# Altium schematic symbol library 6N137.SCHLIB: 1 symbol
Pins are listed as number, name and electrical type; pins without a type are passive.

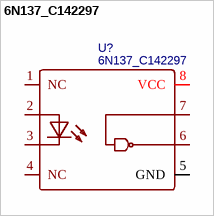
[diagram p0: symbol 6N137_C142297]

## 6N137_C142297
designator U?
Manufacturer: EVERLIGHT(亿光); Manufacturer Part: 6N137; Contributor: LCSC; Supplier: LCSC; Supplier Part: C142297; JLCPCB Part Class: Extended Part; spicePre: U; spiceSymbolName: 6N137_C142297
footprint DIP-8_L9.8-W6.6-P2.54-LS7.6-BL
pins: 1 NC, 2 AN, 3 CAT, 4 NC, 5 GND, 6 VOUT, 7 VE, 8 VCC